# Altium schematic symbol library default_60.SchLib: 12 symbols
Pins are listed as number, name and electrical type; pins without a type are passive.

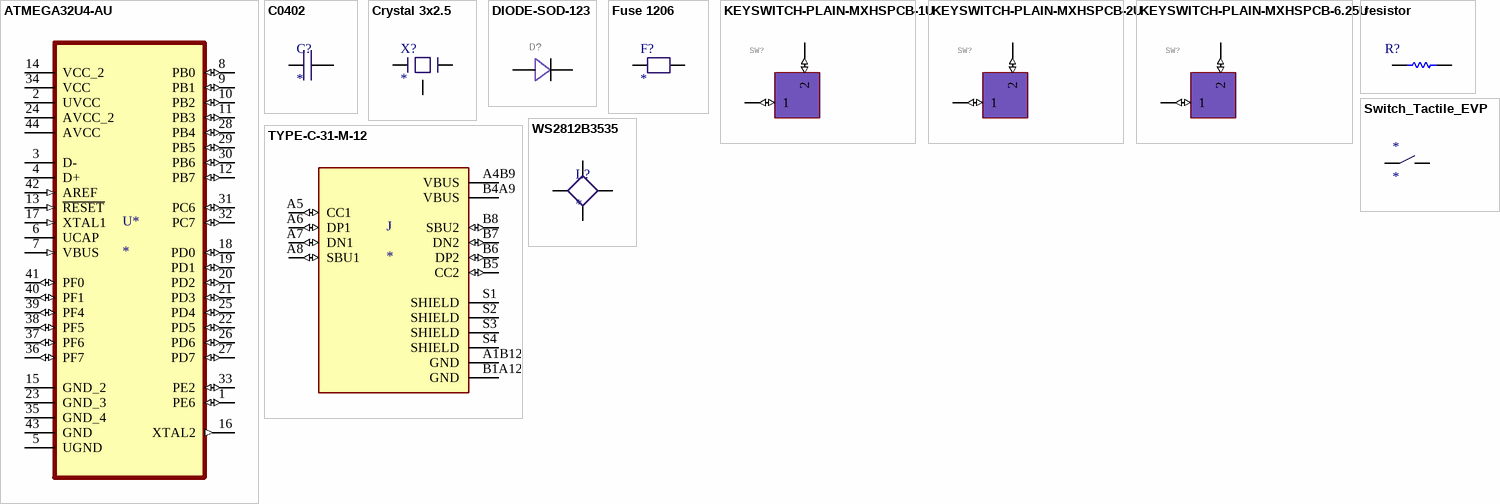
[diagram p0: symbols ATMEGA32U4-AU to WS2812B3535]

## ATMEGA32U4-AU
designator U*
AVR AVRÂ® ATmega Microcontroller IC 8-Bit 16MHz 32KB _16K x 16_ FLASH 44-TQFP _10x10_; MP: ATMEGA32U4-AU; MF: Microchip Technology; Value: *; SnapEDA_Link: https://www.snapeda.com/parts/ATMEGA32U4-AU/Microchip/view-part/4251478/?ref=snap; Availability: Unavailable; Price: None; Package: TQFP-44 Microchip Technology
footprint QFPN_ATMEGA32U4-44N
pins: 1 PE6 (io), 2 UVCC (power), 3 D-, 4 D+, 5 UGND, 6 UCAP (power), 7 VBUS (in), 8 PB0 (io), 9 PB1 (io), 10 PB2 (io), 11 PB3 (io), 12 PB7 (io), 13 ~{RESET} (in), 14 VCC_2 (power), 15 GND_2, 16 XTAL2 (out), 17 XTAL1 (in), 18 PD0 (io), 19 PD1 (io), 20 PD2 (io), 21 PD3 (io), 22 PD5 (io), 23 GND_3, 24 AVCC_2 (power), 25 PD4 (io), 26 PD6 (io), 27 PD7 (io), 28 PB4 (io), 29 PB5 (io), 30 PB6 (io), 31 PC6 (io), 32 PC7 (io), 33 PE2 (io), 34 VCC (power), 35 GND_4, 36 PF7 (io), 37 PF6 (io), 38 PF5 (io), 39 PF4 (io), 40 PF1 (io), 41 PF0 (io), 42 AREF (in), 43 GND, 44 AVCC (power)

## C0402
designator C?
footprint C0402
pins: 1, 2

## Crystal 3x2.5
designator X?
footprint CRYSTAL-3.2X2.5
pins: 1, 2, 4 (io), 3

## DIODE-SOD-123
designator D?, comment Standard 1N4148 diode  (value not drawn)
GateName_1: D$1; DeviceName: -SOD-123; SymbolName_1: DIODE; LibraryName: Components; DeviceSetName: DIODE; Package: SOD-123
footprint SOD-123
pins: A, C

## Fuse 1206
designator F?
footprint F1206
pins: 1, 2

## KEYSWITCH-PLAIN-MXHSPCB-1U
designator SW?
SymbolName_1: KEYSWITCH-PLAIN; DeviceName: -MXHSPCB-1U; GateName_1: G$1; LibraryName: Keyboard; DeviceSetName: KEYSWITCH-PLAIN; Package: MXHSPCB-1U
footprint MXHSPCB-1U
pins: MX1 1 (io), MX2 2 (io)

## KEYSWITCH-PLAIN-MXHSPCB-2U
designator SW?
SymbolName_1: KEYSWITCH-PLAIN; DeviceName: -MXHSPCB-1U; GateName_1: G$1; LibraryName: Keyboard; DeviceSetName: KEYSWITCH-PLAIN; Package: MXHSPCB-1U
footprint MXHSPCB-2U-LEDHOLE
pins: MX1 1 (io), MX2 2 (io)

## KEYSWITCH-PLAIN-MXHSPCB-6.25U
designator SW?
SymbolName_1: KEYSWITCH-PLAIN; DeviceName: -MXHSPCB-1U; GateName_1: G$1; LibraryName: Keyboard; DeviceSetName: KEYSWITCH-PLAIN; Package: MXHSPCB-1U
footprint MXHSPCB-6.25U-FLIPPED
pins: MX1 1 (io), MX2 2 (io)

## resistor
designator R?  (value not drawn)
footprint R0402
pins: 1, 2

## Switch_Tactile_EVP
designator *
footprint SW_EVP-BB2A9B000
pins: A, B

## TYPE-C-31-M-12
designator J
USB Connectors 24 Receptacle 1 8.94*7.3mm RoHS; MF: HRO Electronics Co., Ltd.; MP: TYPE-C-31-M-12; Value: *; SnapEDA_Link: https://www.snapeda.com/parts/TYPE-C-31-M-12/HRO%20Electronics%20Co.,%20Ltd./view-part/3228496/?ref=snap; Package: Package; Price: None; Availability: Unavailable
footprint HRO_TYPE-C-31-M-12
pins: A1B12 GND (power), A4B9 VBUS (power), A5 CC1 (io), A6 DP1 (io), A7 DN1 (io), A8 SBU1 (io), B1A12 GND (power), B4A9 VBUS (power), B5 CC2 (io), B6 DP2 (io), B7 DN2 (io), B8 SBU2 (io), S1 SHIELD, S2 SHIELD, S3 SHIELD, S4 SHIELD

## WS2812B3535
designator L?
MP: WS2812B; MF: SparkFun Electronics; Availability: Unavailable; SnapEDA_Link: https://www.snapeda.com/parts/WS2812B/Worldsemi/view-part/1038297/?ref=snap; Price: None; Value: *; Package: None
footprint Neopixel3535
pins: 1-VDD VDD, 2-DOUT DOUT, 3-GND GND, 4-DIN DIN